# Altium schematic symbol library Schlib1.SchLib: 36 symbols
Pins are listed as number, name and electrical type; pins without a type are passive.

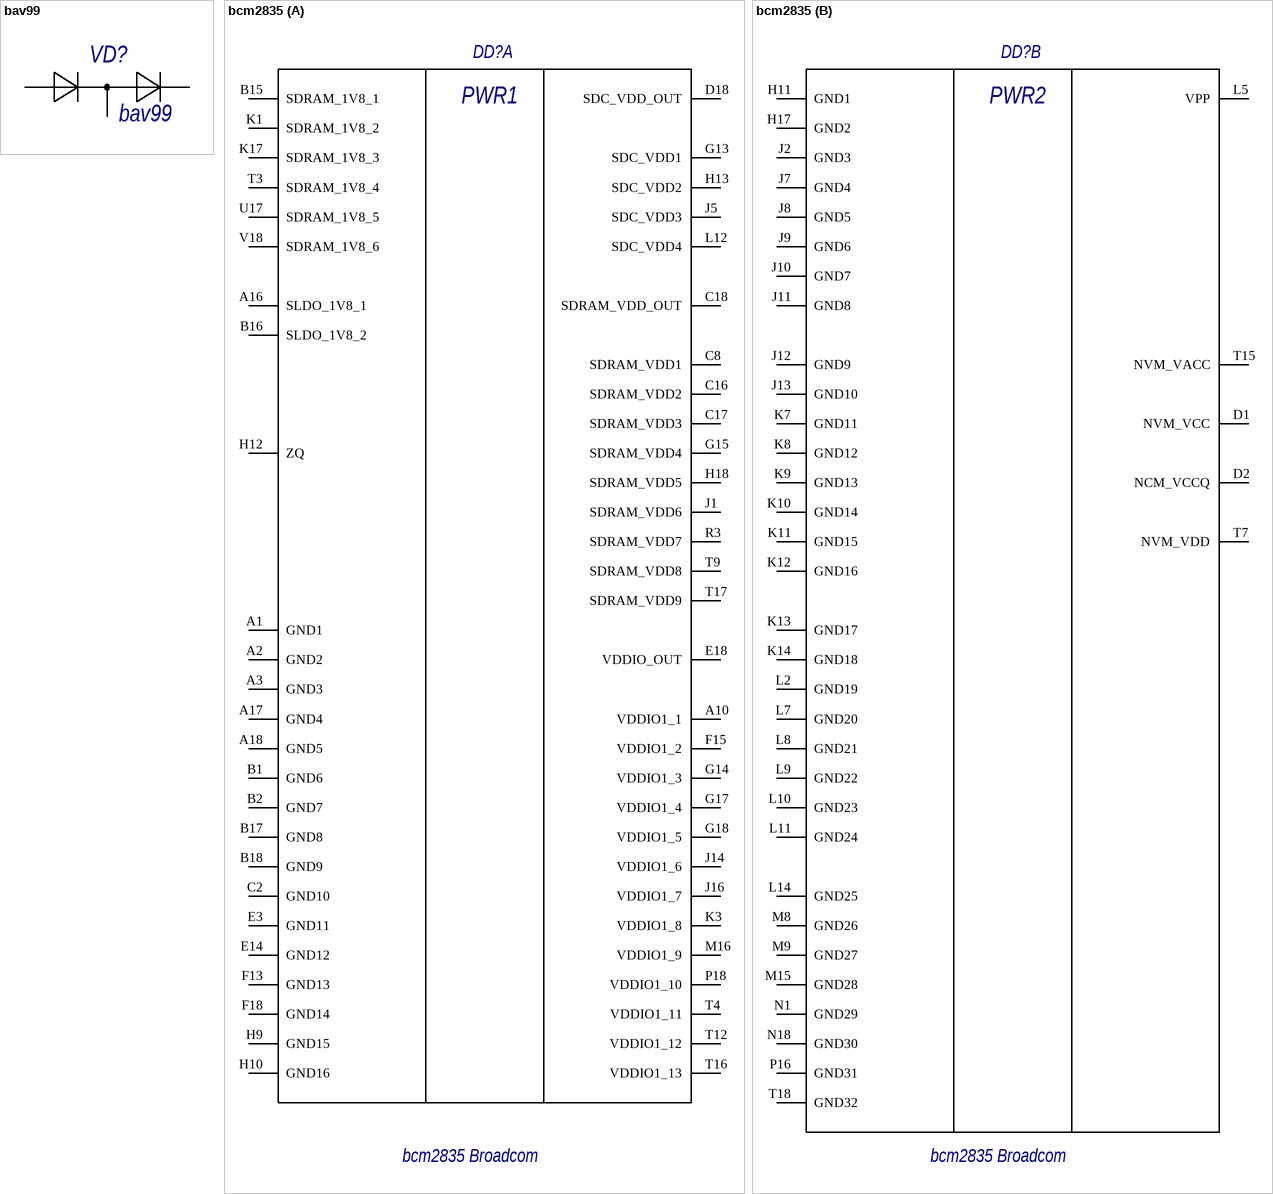
[diagram p0: symbols bav99 to bcm2835]

## bav99
designator VD?, comment Name: bav99  (hidden comment: bav99 *)
bav99 double diode; Manufacturer: *
footprint SOT_99-E3-08_VIS
pins: 1, 3, 3

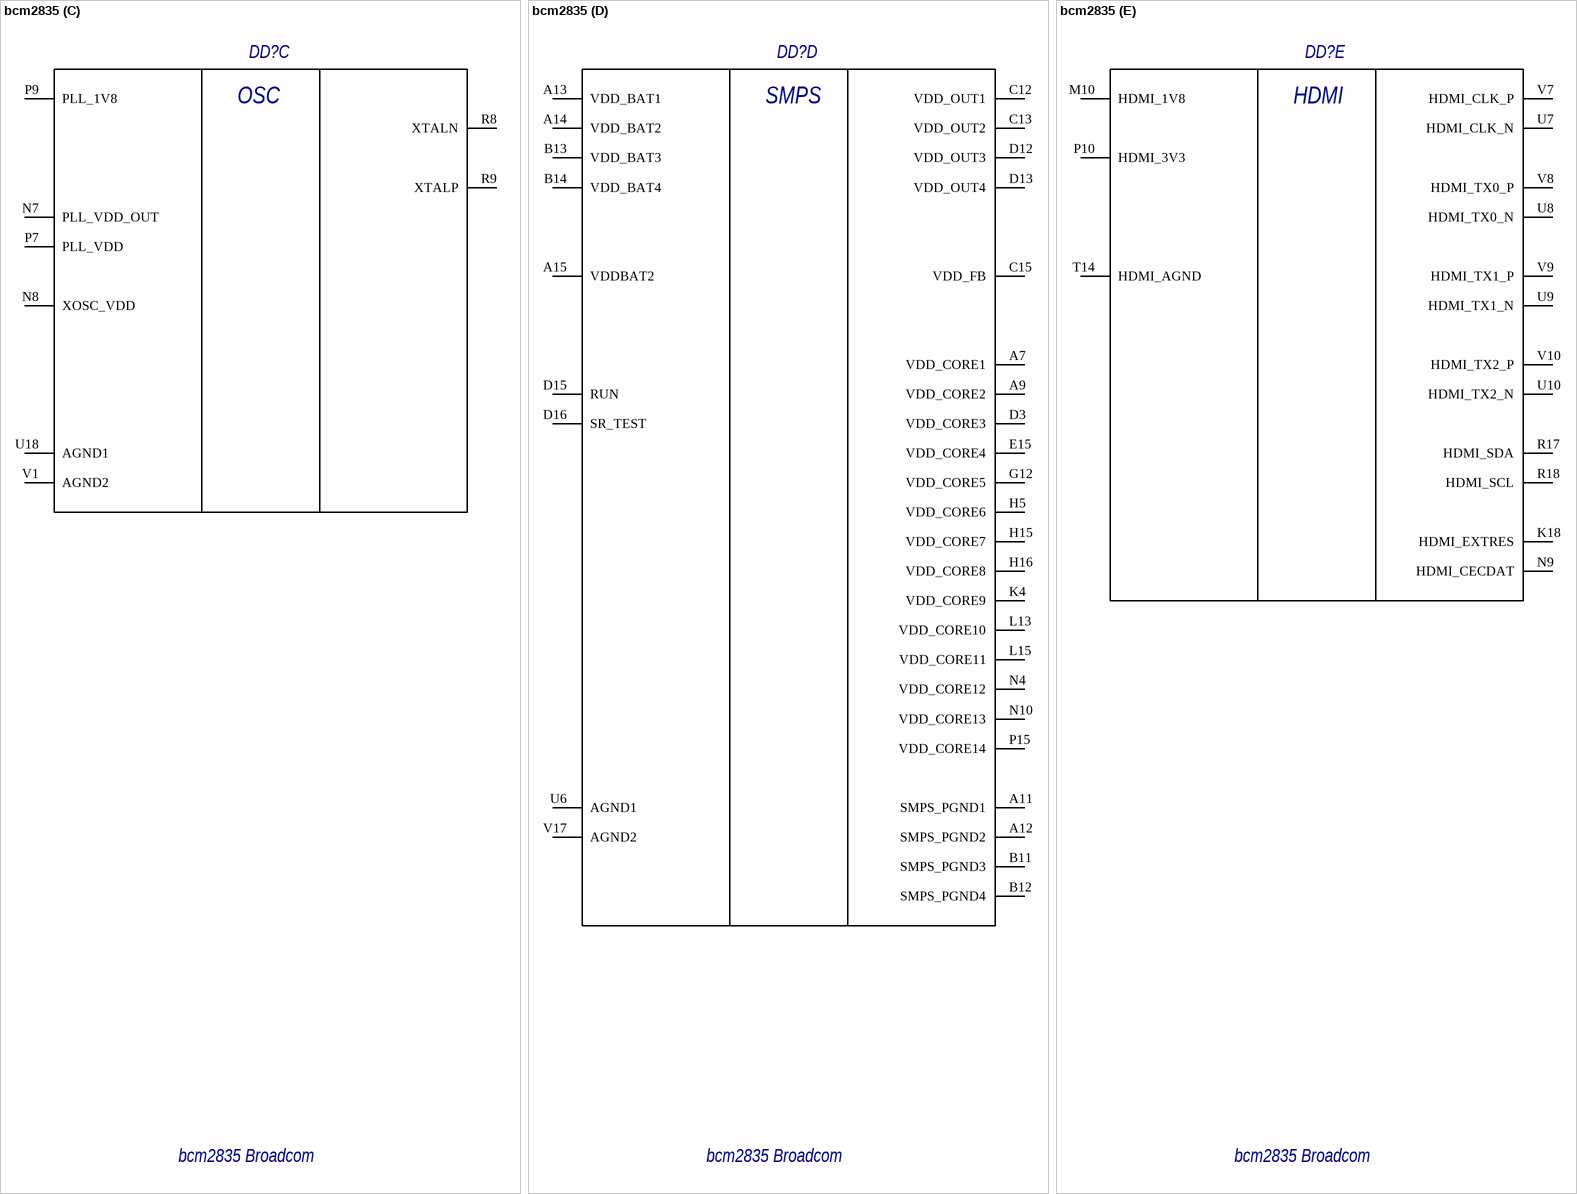
[diagram p1: symbol bcm2835]

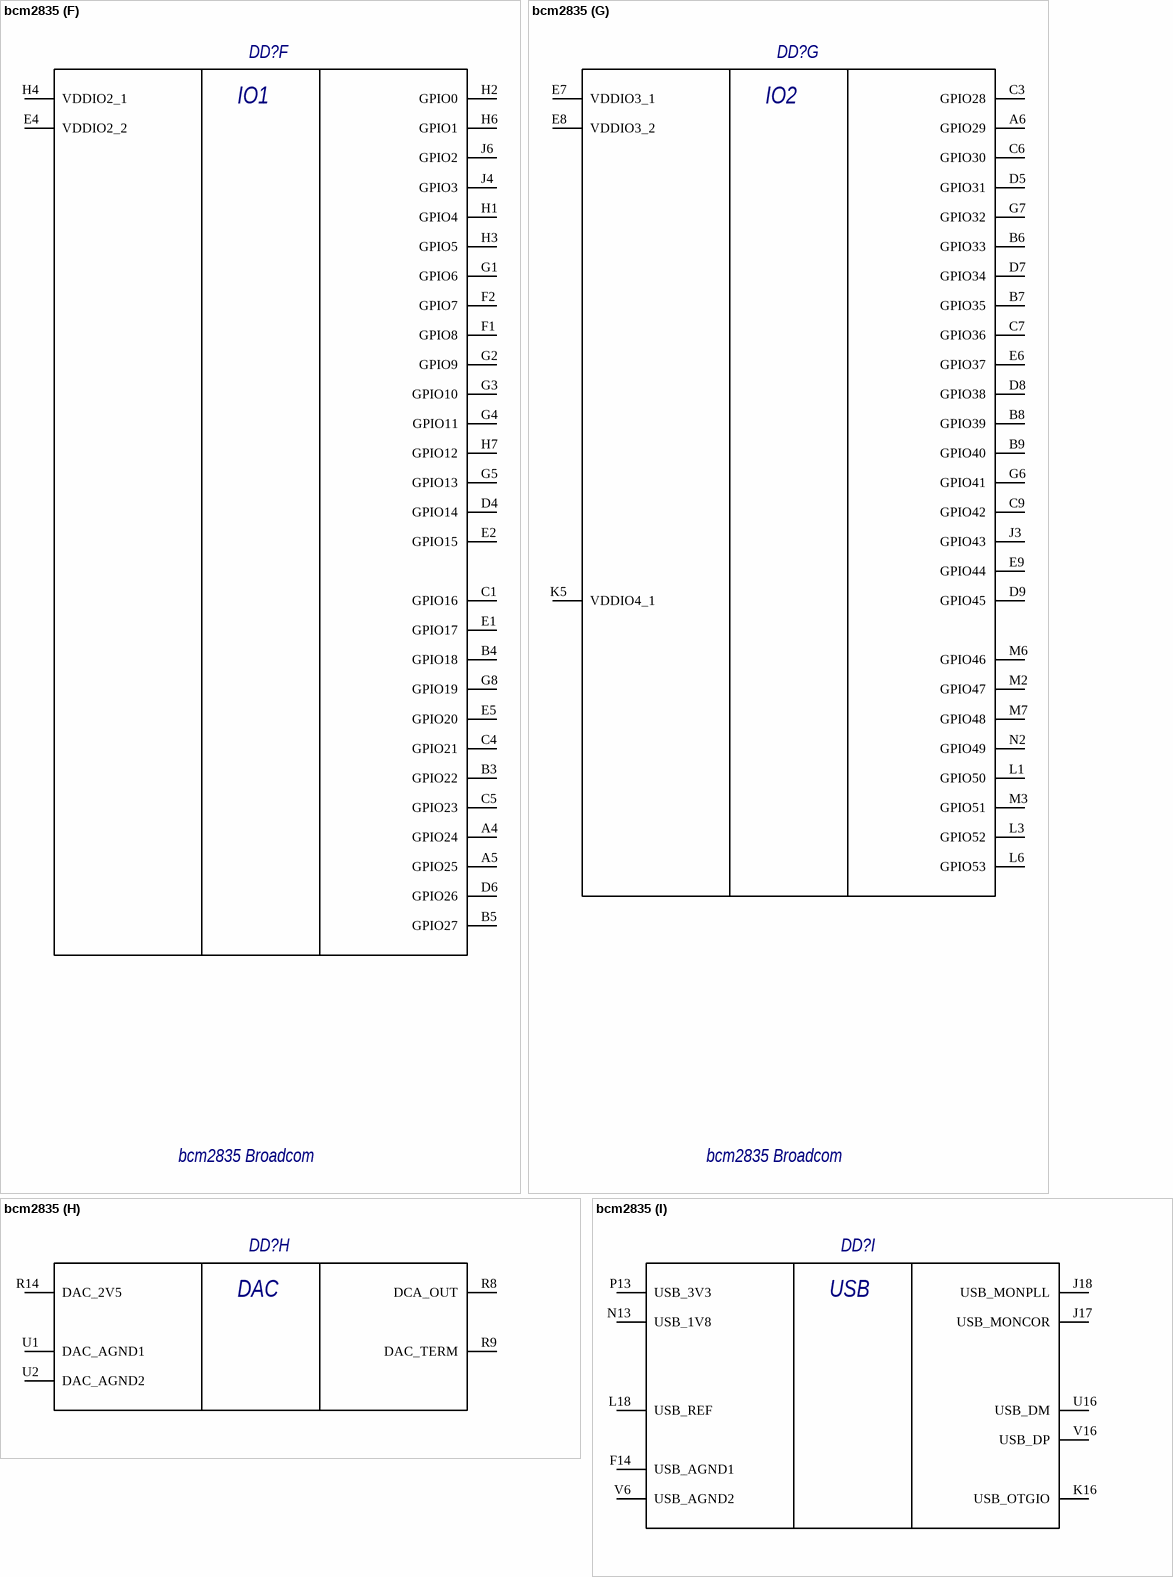
[diagram p2: symbol bcm2835]

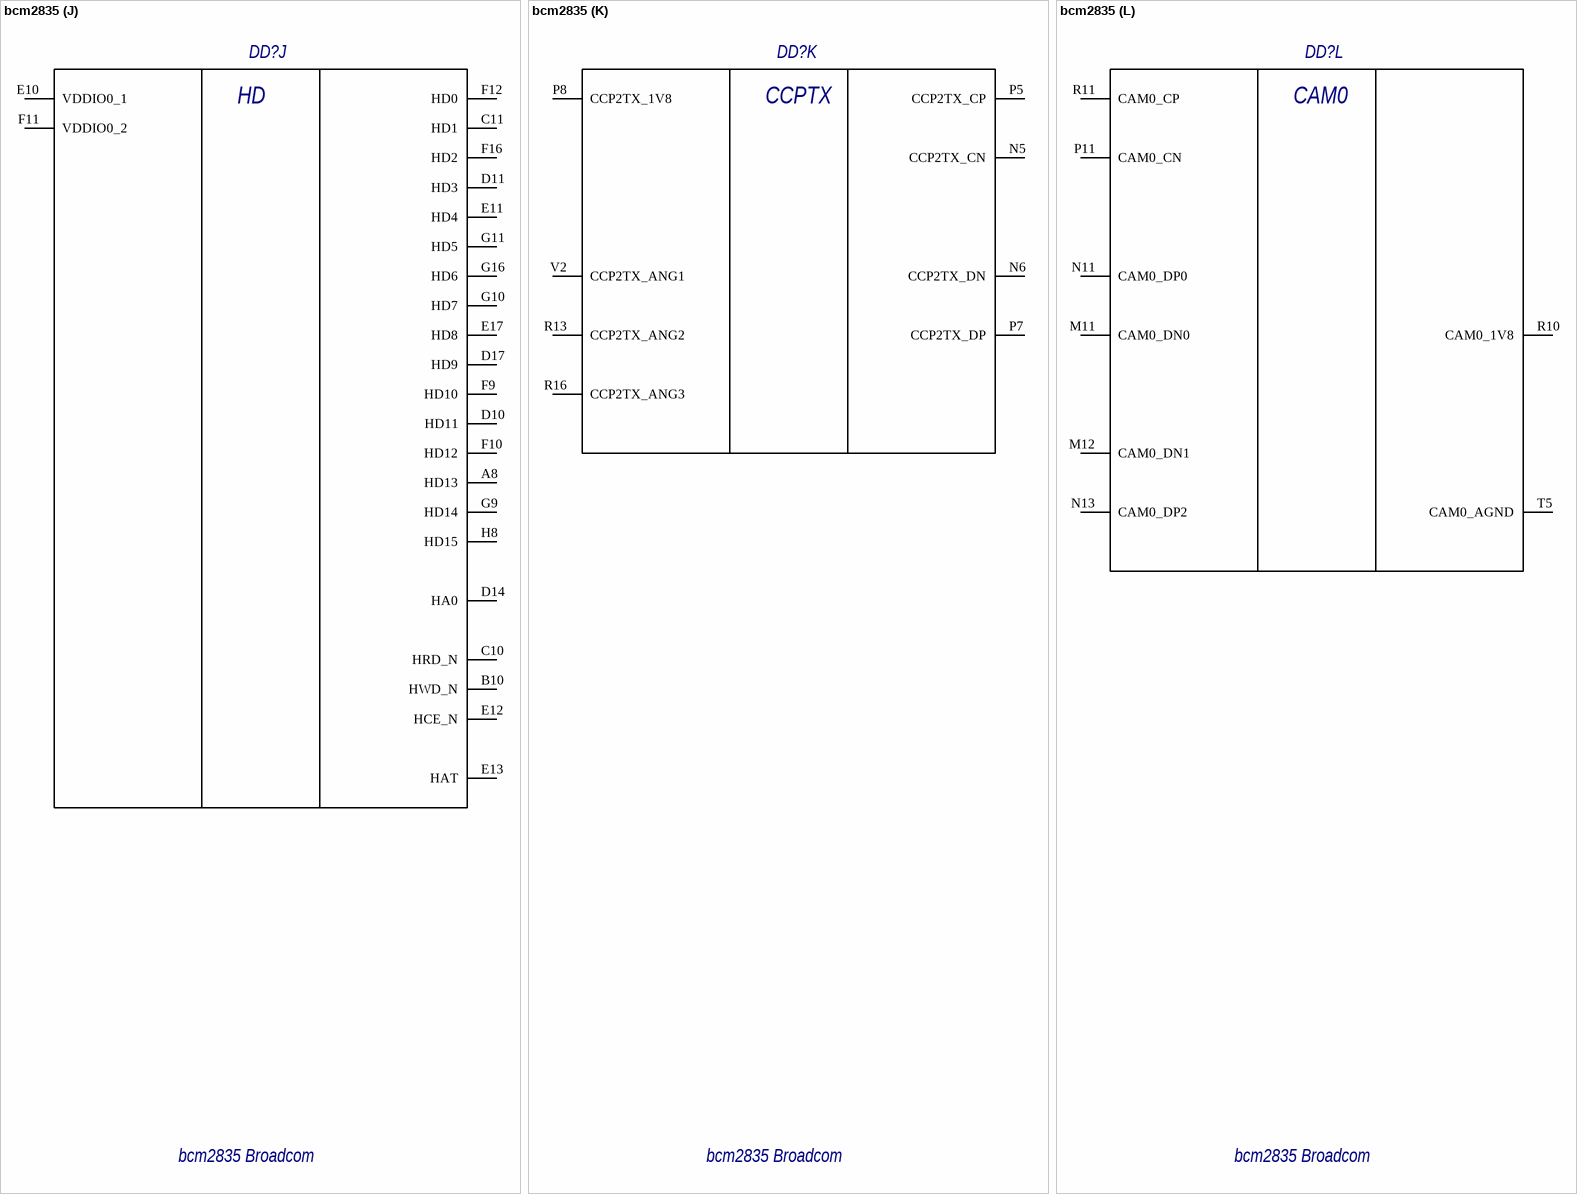
[diagram p3: symbol bcm2835]

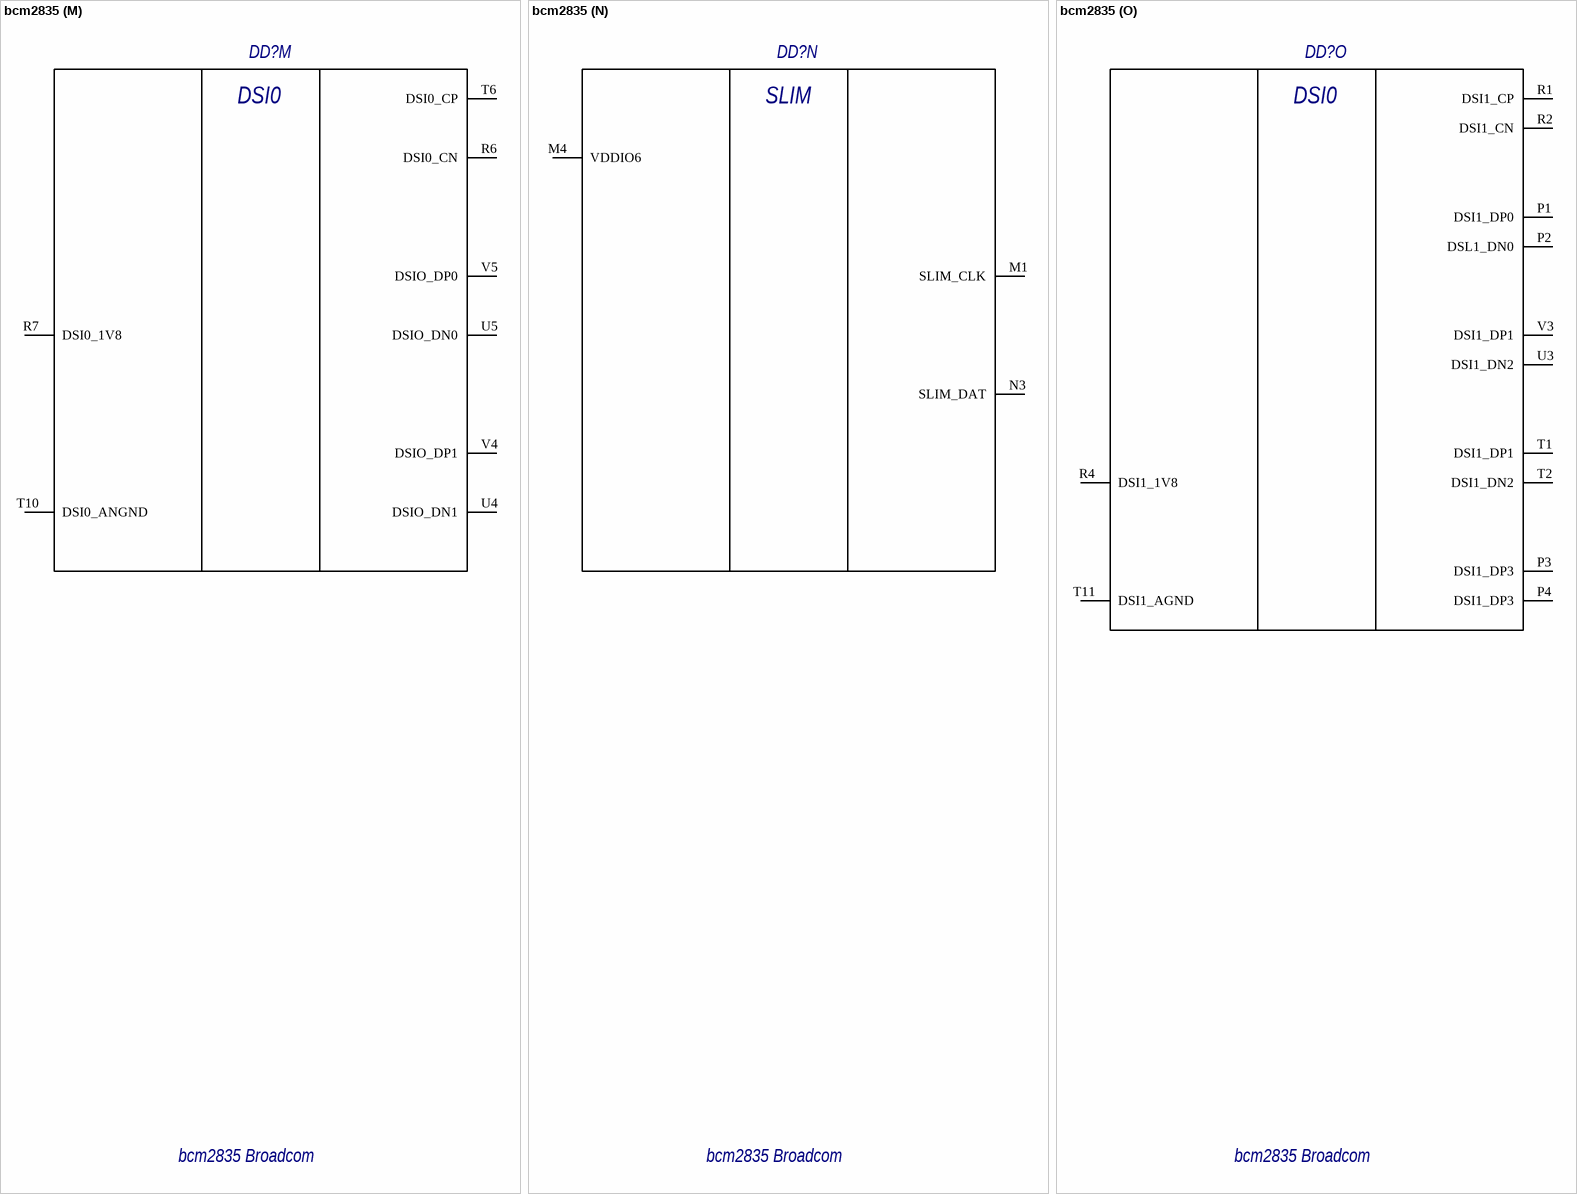
[diagram p4: symbol bcm2835]

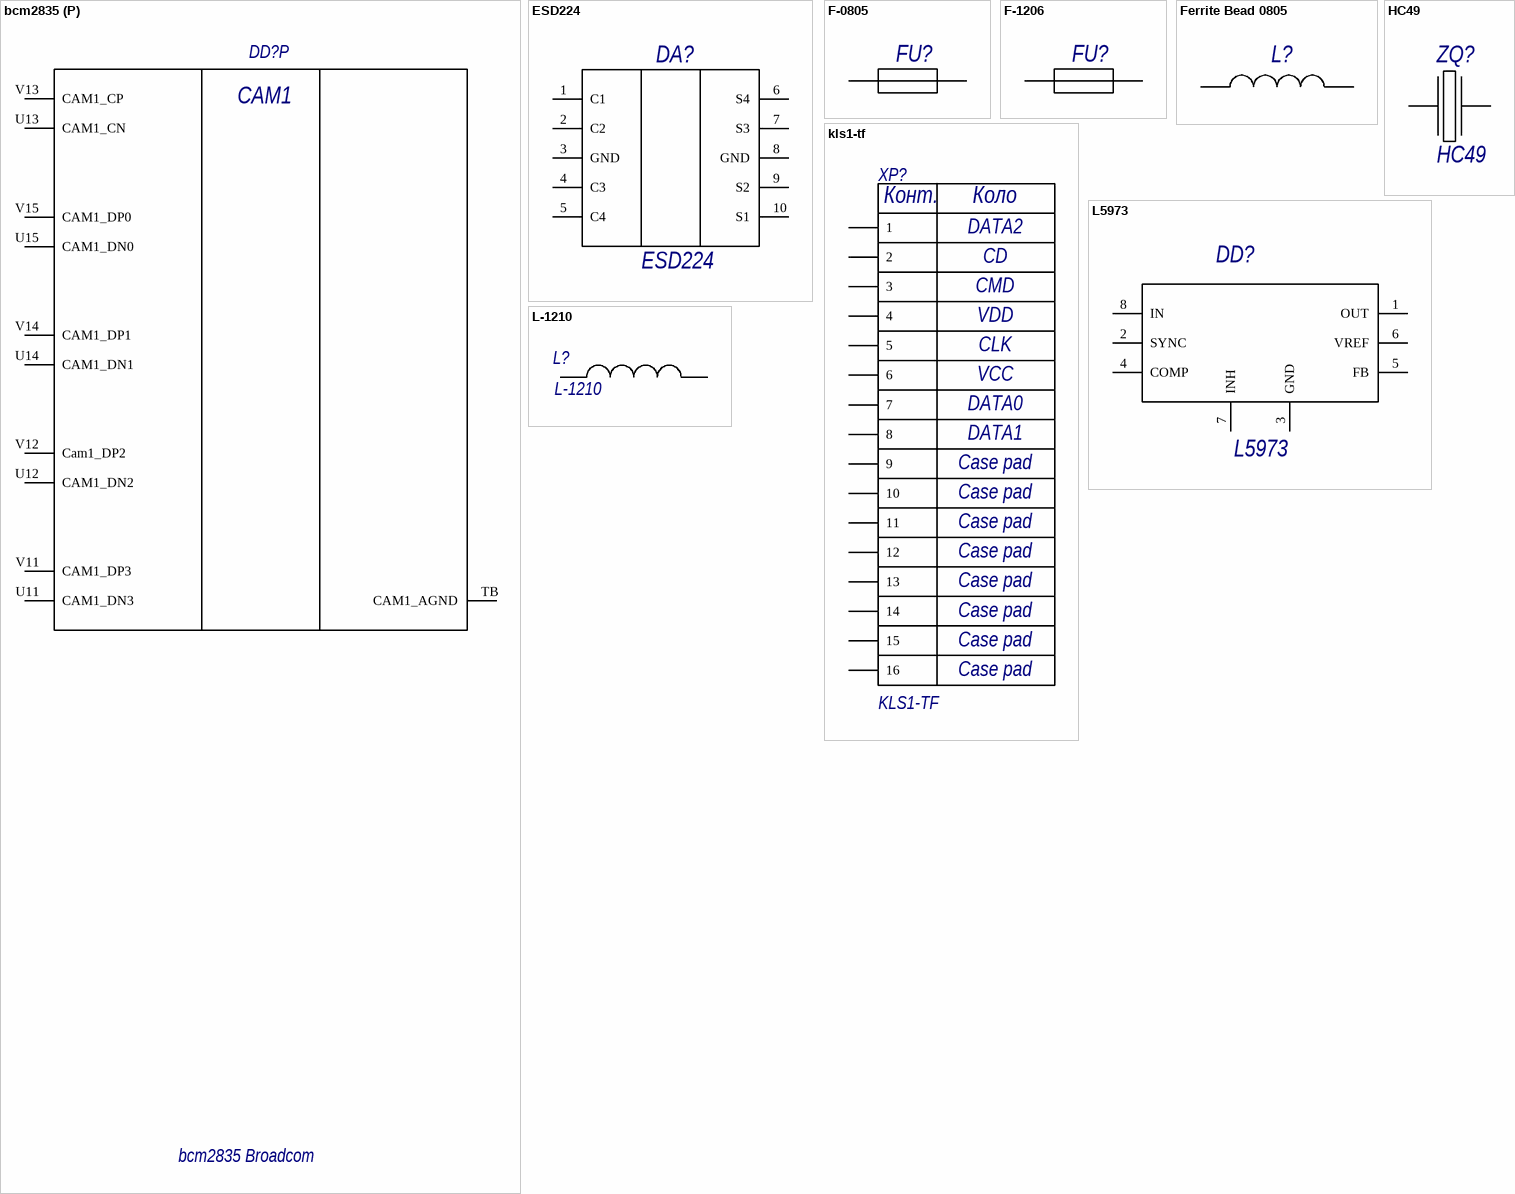
[diagram p5: symbols bcm2835 to L-1210]

## bcm2835
designator DD?, comment bcm2835 Broadcom
BCM2835 ARM-based processor; Manufacturer: Broadcom; Name: bcm2835
footprint BGA81C65P18X18_1200X1200 (BGA, 81-Leads, Body 12,00x12,00mmx1,00mm, Pitch 0,65mm)
part A pins: A1 GND1, A2 GND2, A3 GND3, A10 VDDIO1_1, A16 SLDO_1V8_1, A17 GND4, A18 GND5, B1 GND6, B2 GND7, B15 SDRAM_1V8_1, B16 SLDO_1V8_2, B17 GND8, B18 GND9, C2 GND10, D18 SDC_VDD_OUT, E3 GND11, E14 GND12, E18 VDDIO_OUT, F13 GND13, F15 VDDIO1_2, F18 GND14, G13 SDC_VDD1, G14 VDDIO1_3, G15 SDRAM_VDD4, G17 VDDIO1_4, G18 VDDIO1_5, H9 GND15, H10 GND16, H12 ZQ, H13 SDC_VDD2, H18 SDRAM_VDD5, J1 SDRAM_VDD6, J5 SDC_VDD3, J14 VDDIO1_6, J16 VDDIO1_7, K1 SDRAM_1V8_2, K3 VDDIO1_8, K17 SDRAM_1V8_3, L12 SDC_VDD4, M16 VDDIO1_9, P18 VDDIO1_10, R3 SDRAM_VDD7, T3 SDRAM_1V8_4, T4 VDDIO1_11, T9 SDRAM_VDD8, T12 VDDIO1_12, T16 VDDIO1_13, T17 SDRAM_VDD9, U17 SDRAM_1V8_5, V18 SDRAM_1V8_6, С8 SDRAM_VDD1, С16 SDRAM_VDD2, С17 SDRAM_VDD3, С18 SDRAM_VDD_OUT
part B pins: D1 NVM_VCC, D2 NCM_VCCQ, H11 GND1, H17 GND2, J2 GND3, J7 GND4, J8 GND5, J9 GND6, J10 GND7, J11 GND8, J12 GND9, J13 GND10, K7 GND11, K8 GND12, K9 GND13, K10 GND14, K11 GND15, K12 GND16, K13 GND17, K14 GND18, L2 GND19, L5 VPP, L7 GND20, L8 GND21, L9 GND22, L10 GND23, L11 GND24, L14 GND25, M8 GND26, M9 GND27, M15 GND28, N1 GND29, N18 GND30, P16 GND31, T7 NVM_VDD, T15 NVM_VACC, T18 GND32
part C pins: N7 PLL_VDD_OUT, N8 XOSC_VDD, P7 PLL_VDD, P9 PLL_1V8, R8 XTALN, R9 XTALP, U18 AGND1, V1 AGND2
part D pins: A7 VDD_CORE1, A9 VDD_CORE2, A11 SMPS_PGND1, A12 SMPS_PGND2, A13 VDD_BAT1, A14 VDD_BAT2, A15 VDDBAT2, B11 SMPS_PGND3, B12 SMPS_PGND4, B13 VDD_BAT3, B14 VDD_BAT4, C12 VDD_OUT1, C13 VDD_OUT2, C15 VDD_FB, D3 VDD_CORE3, D12 VDD_OUT3, D13 VDD_OUT4, D15 RUN, D16 SR_TEST, E15 VDD_CORE4, G12 VDD_CORE5, H5 VDD_CORE6, H15 VDD_CORE7, H16 VDD_CORE8, K4 VDD_CORE9, L13 VDD_CORE10, L15 VDD_CORE11, N4 VDD_CORE12, N10 VDD_CORE13, P15 VDD_CORE14, U6 AGND1, V17 AGND2
part E pins: K18 HDMI_EXTRES, M10 HDMI_1V8, N9 HDMI_CECDAT, P10 HDMI_3V3, R17 HDMI_SDA, R18 HDMI_SCL, T14 HDMI_AGND, U7 HDMI_CLK_N, U8 HDMI_TX0_N, U9 HDMI_TX1_N, U10 HDMI_TX2_N, V7 HDMI_CLK_P, V8 HDMI_TX0_P, V9 HDMI_TX1_P, V10 HDMI_TX2_P
part F pins: A4 GPIO24, A5 GPIO25, B3 GPIO22, B4 GPIO18, B5 GPIO27, C1 GPIO16, C4 GPIO21, C5 GPIO23, D4 GPIO14, D6 GPIO26, E1 GPIO17, E2 GPIO15, E4 VDDIO2_2, E5 GPIO20, F1 GPIO8, F2 GPIO7, G1 GPIO6, G2 GPIO9, G3 GPIO10, G4 GPIO11, G5 GPIO13, G8 GPIO19, H1 GPIO4, H2 GPIO0, H3 GPIO5, H4 VDDIO2_1, H6 GPIO1, H7 GPIO12, J4 GPIO3, J6 GPIO2
part G pins: A6 GPIO29, B6 GPIO33, B7 GPIO35, B8 GPIO39, B9 GPIO40, C3 GPIO28, C6 GPIO30, C7 GPIO36, C9 GPIO42, D5 GPIO31, D7 GPIO34, D8 GPIO38, D9 GPIO45, E6 GPIO37, E7 VDDIO3_1, E8 VDDIO3_2, E9 GPIO44, G6 GPIO41, G7 GPIO32, J3 GPIO43, K5 VDDIO4_1, L1 GPIO50, L3 GPIO52, L6 GPIO53, M2 GPIO47, M3 GPIO51, M6 GPIO46, M7 GPIO48, N2 GPIO49
part H pins: R8 DCA_OUT, R9 DAC_TERM, R14 DAC_2V5, U1 DAC_AGND1, U2 DAC_AGND2
part I pins: F14 USB_AGND1, J17 USB_MONCOR, J18 USB_MONPLL, K16 USB_OTGIO, L18 USB_REF, N13 USB_1V8, P13 USB_3V3, U16 USB_DM, V6 USB_AGND2, V16 USB_DP
part J pins: A8 HD13, B10 HWD_N, C10 HRD_N, C11 HD1, D10 HD11, D11 HD3, D14 HA0, D17 HD9, E10 VDDIO0_1, E11 HD4, E12 HCE_N, E13 HAT, E17 HD8, F9 HD10, F10 HD12, F11 VDDIO0_2, F12 HD0, F16 HD2, G9 HD14, G10 HD7, G11 HD5, G16 HD6, H8 HD15
part K pins: N5 CCP2TX_CN, N6 CCP2TX_DN, P5 CCP2TX_CP, P7 CCP2TX_DP, P8 CCP2TX_1V8, R13 CCP2TX_ANG2, R16 CCP2TX_ANG3, V2 CCP2TX_ANG1
part L pins: M11 CAM0_DN0, M12 CAM0_DN1, N11 CAM0_DP0, N13 CAM0_DP2, P11 CAM0_CN, R10 CAM0_1V8, R11 CAM0_CP, T5 CAM0_AGND
part M pins: R6 DSI0_CN, R7 DSI0_1V8, T6 DSI0_CP, T10 DSI0_ANGND, U4 DSIO_DN1, U5 DSIO_DN0, V4 DSIO_DP1, V5 DSIO_DP0
part N pins: M1 SLIM_CLK, M4 VDDIO6, N3 SLIM_DAT
part O pins: P1 DSI1_DP0, P2 DSL1_DN0, P3 DSI1_DP3, P4 DSI1_DP3, R1 DSI1_CP, R2 DSI1_CN, R4 DSI1_1V8, T1 DSI1_DP1, T2 DSI1_DN2, T11 DSI1_AGND, U3 DSI1_DN2, V3 DSI1_DP1
part P pins: TB CAM1_AGND, U11 CAM1_DN3, U12 CAM1_DN2, U13 CAM1_CN, U14 CAM1_DN1, U15 CAM1_DN0, V11 CAM1_DP3, V12 Cam1_DP2, V13 CAM1_CP, V14 CAM1_DP1, V15 CAM1_DP0
part A text: PWR1
part B text: PWR2
part C text: OSC
part D text: SMPS
part E text: HDMI
part F text: IO1
part G text: IO2
part H text: DAC
part I text: USB
part J text: HD
part K text: CCPTX
part L text: CAM0
part M text: DSI0
part N text: SLIM
part O text: DSI0
part P text: CAM1

## ESD224
designator DA?, comment Name: ESD224  (hidden comment: ESD224 *)
bav99 double diode; Manufacturer: *
footprint DQA0010A
pins: 1 C1, 2 C2, 3 GND, 4 C3, 5 C4, 6 S4, 7 S3, 8 GND, 9 S2, 10 S1

## F-0805
designator FU?, comment F-0805 * * * *  (value not drawn)
Generic Fuse 0805; Manufacturer: *; Tolerance: *; Package: F-0805; Power: *; Value: *
footprint FUSE_0805
pins: 1, 2

## F-1206
designator FU?, comment F-1206 * * * *  (value not drawn)
Generic Fuse 1206; Manufacturer: *; Tolerance: *; Package: F-1206; Power: *; Value: *
footprint FUSE_1206
pins: 1, 2

## Ferrite Bead 0805
designator L?, comment R-0402 * * * *  (value not drawn)
Generic; Manufacturer: *; Tolerance: *; Package: R-0402; Power: *; Value: *
footprint FB-0805
pins: 1, 2

## HC49
designator ZQ?, comment HC49 *  (value not drawn)
HC49; Manufacturer: *; Value: *; Name: HC49
footprint HC49
pins: 1, 2

## kls1-tf
designator XP?, comment KLS1-TF
Micro-SD card connector SMT mounting; Name: kls1-tf
footprint 504077-1891_MOL
pins: 1, 2, 3, 4, 5, 6, 7, 8, 9, 10, 11, 12, 13, 14, 15, 16
text: Конт.; Коло; DATA2; CD; CMD; VDD; CLK; VCC; DATA0; DATA1; Case pad

## L5973
designator DD?, comment L5973 *  (value not drawn)
L5973; Manufacturer: *; Name: L5973
footprint HSOP8_STM
pins: 1 OUT, 2 SYNC, 3 GND, 4 COMP, 5 FB, 6 VREF, 7 INH, 8 IN

## L-1210
designator L?
Inductor; Name: L-1210
footprint IND_NC_SUM
pins: 1, 2

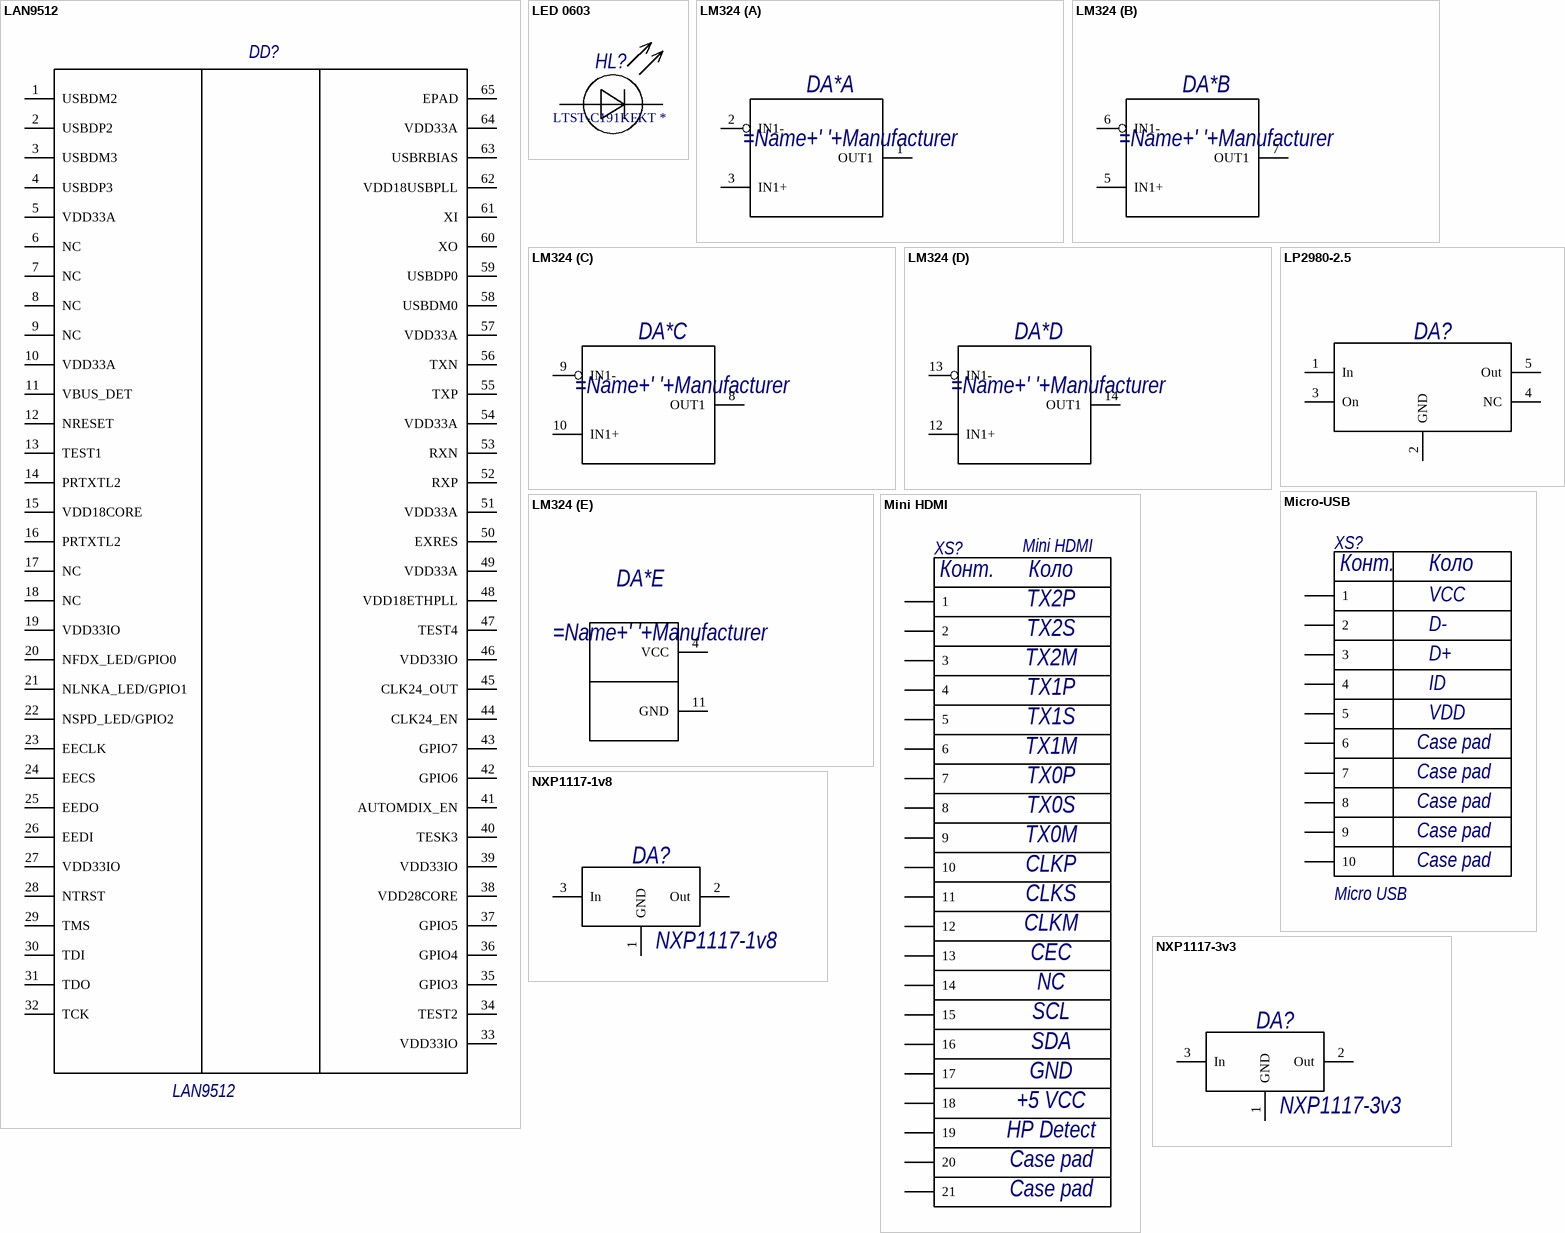
[diagram p6: symbols LAN9512 to NXP1117-3v3]

## LAN9512
designator DD?
Ethernet + USB Controller; Name: LAN9512
footprint QFN64_9x9MC_MCH
pins: 1 USBDM2, 2 USBDP2, 3 USBDM3, 4 USBDP3, 5 VDD33A, 6 NC, 7 NC, 8 NC, 9 NC, 10 VDD33A, 11 VBUS_DET, 12 NRESET, 13 TEST1, 14 PRTXTL2, 15 VDD18CORE, 16 PRTXTL2, 17 NC, 18 NC, 19 VDD33IO, 20 NFDX_LED/GPIO0, 21 NLNKA_LED/GPIO1, 22 NSPD_LED/GPIO2, 23 EECLK, 24 EECS, 25 EEDO, 26 EEDI, 27 VDD33IO, 28 NTRST, 29 TMS, 30 TDI, 31 TDO, 32 TCK, 33 VDD33IO, 34 TEST2, 35 GPIO3, 36 GPIO4, 37 GPIO5, 38 VDD28CORE, 39 VDD33IO, 40 TESK3, 41 AUTOMDIX_EN, 42 GPIO6, 43 GPIO7, 44 CLK24_EN, 45 CLK24_OUT, 46 VDD33IO, 47 TEST4, 48 VDD18ETHPLL, 49 VDD33A, 50 EXRES, 51 VDD33A, 52 RXP, 53 RXN, 54 VDD33A, 55 TXP, 56 TXN, 57 VDD33A, 58 USBDM0, 59 USBDP0, 60 XO, 61 XI, 62 VDD18USBPLL, 63 USBRBIAS, 64 VDD33A, 65 EPAD

## LED 0603
designator HL?, comment LTST-C191KFKT *
Generic LED 0603; Manufacturer: *; Name: LTST-C191KFKT
footprint LED_DIALIGHT_598_DIA
pins: 1, 2

## LM324
designator DA*
Operational amplifier LM324
footprint SOIC-14_NB_ONS
part A pins: 1 OUT1, 2 IN1-, 3 IN1+
part B pins: 5 IN1+, 6 IN1-, 7 OUT1
part C pins: 8 OUT1, 9 IN1-, 10 IN1+
part D pins: 12 IN1+, 13 IN1-, 14 OUT1
part E pins: 4 VCC, 11 GND

## LP2980-2.5
designator DA?
LDO at output 2.5V
footprint MF05A_TEX-L
pins: 1 In, 2 GND, 3 On, 4 NC, 5 Out

## Micro-USB
designator XS?, comment Micro USB
Micro-USB connector for SMT mounting; Name: kls1-tf
footprint micro-usb
pins: 1, 2, 3, 4, 5, 6, 7, 8, 9, 10
text: Конт.; Коло; VCC; D-; D+; ID; VDD; Case pad

## Mini HDMI
designator XS?
Name: Mini HDMI
footprint mini HDMI
pins: 1, 2, 3, 4, 5, 6, 7, 8, 9, 10, 11, 12, 13, 14, 15, 16, 17, 18, 19, 20, 21
text: Конт.; Коло; TX2P; TX2S; TX2M; TX1P; TX1S; TX1M; TX0P; TX0S; TX0M; CLKP; CLKS; CLKM; CEC; NC; SCL; SDA; GND; +5 VCC; HP Detect; Case pad

## NXP1117-1v8
designator DA?
LDO aat output 1.8V
footprint D2PAK3_ONS
pins: 1 GND, 2 Out, 3 In

## NXP1117-3v3
designator DA?
LDO aat output 3.3V
footprint D2PAK3_ONS
pins: 1 GND, 2 Out, 3 In

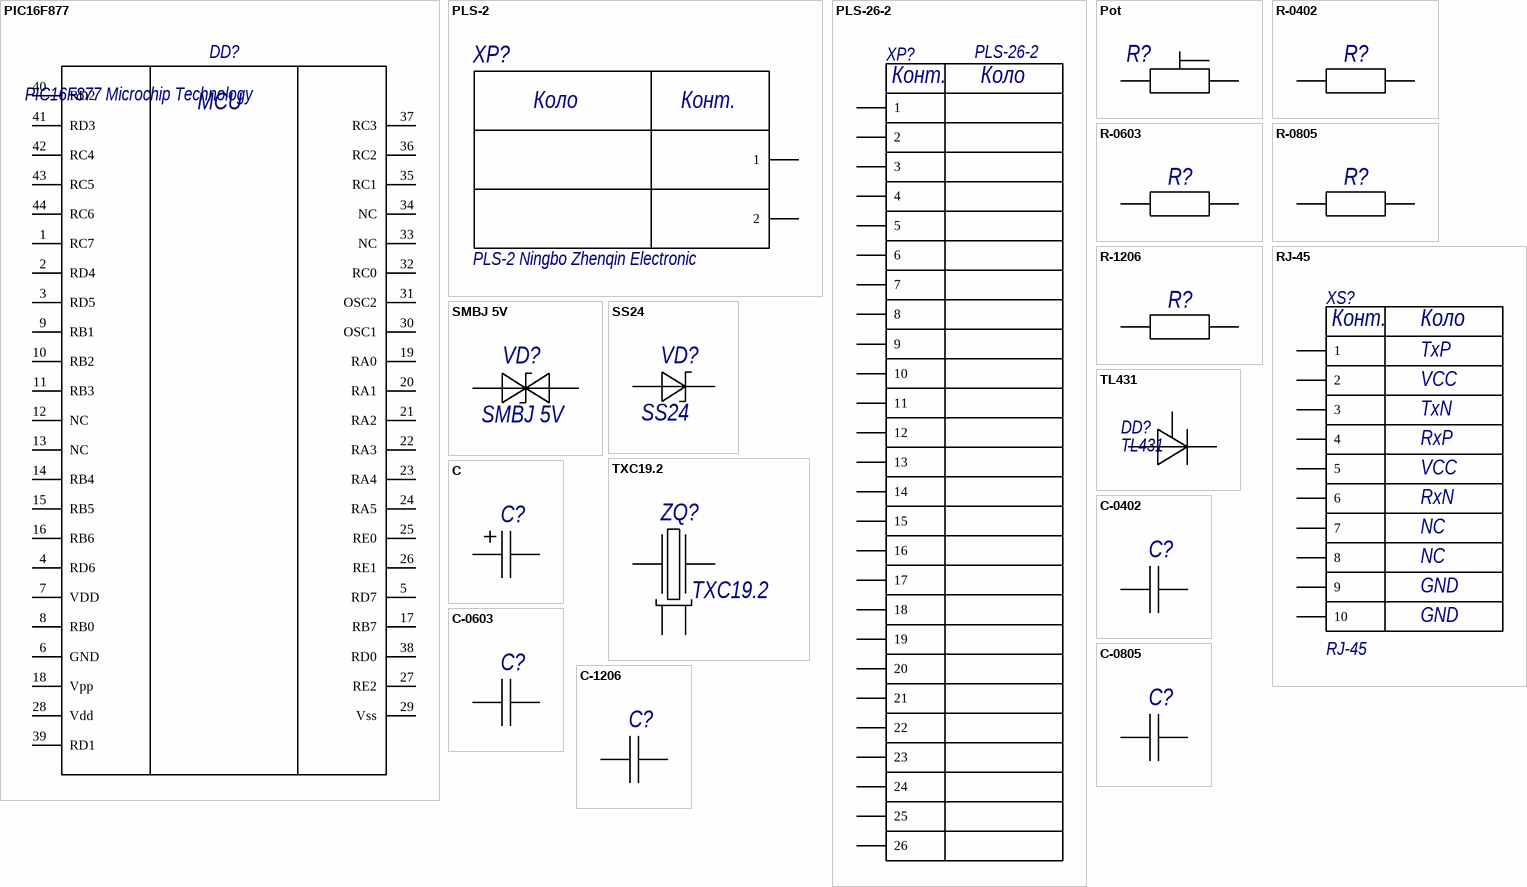
[diagram p7: symbols PIC16F877 to С-1206]

## PIC16F877
designator DD?, comment PIC16F877 Microchip Technology
PIC16F877; Manufacturer: Microchip Technology; Name: PIC16F877
footprint TQFP44_MC_MCH
pins: 1 RC7, 2 RD4, 3 RD5, 4 RD6, 5 RD7, 6 GND, 7 VDD, 8 RB0, 9 RB1, 10 RB2, 11 RB3, 12 NC, 13 NC, 14 RB4, 15 RB5, 16 RB6, 17 RB7, 18 Vpp, 19 RA0, 20 RA1, 21 RA2, 22 RA3, 23 RA4, 24 RA5, 25 RE0, 26 RE1, 27 RE2, 28 Vdd, 29 Vss, 30 OSC1, 31 OSC2, 32 RC0, 33 NC, 34 NC, 35 RC1, 36 RC2, 37 RC3, 38 RD0, 39 RD1, 40 RD2, 41 RD3, 42 RC4, 43 RC5, 44 RC6
text: MCU

## PLS-2
designator XP?, comment PLS-2 Ningbo Zhenqin Electronic
PLS-2; Name: PLS-2; Manufacturer: Ningbo Zhenqin Electronic
footprint PLS-2
pins: 1, 2
text: Коло; Конт.

## PLS-26-2
designator XP?
PLS connector 26 pin 2.54mm pitch 2 rows; Name: PLS-26-2
footprint 26 pin 2.54mm pitch 2 row
pins: 1, 2, 3, 4, 5, 6, 7, 8, 9, 10, 11, 12, 13, 14, 15, 16, 17, 18, 19, 20, 21, 22, 23, 24, 25, 26
text: Конт.; Коло

## Pot
designator R?, comment Pot * * * *  (value not drawn)
Pot; Manufacturer: *; Tolerance: *; Package: Pot; Power: *; Value: *
footprint POT_3296W
pins: 1, 2, 3

## R-0402
designator R?, comment R-0402 * * * *  (value not drawn)
Generic; Manufacturer: *; Tolerance: *; Package: R-0402; Power: *; Value: *
footprint R-0402
pins: 1, 2

## R-0603
designator R?, comment R-0603 * * * *  (value not drawn)
Generic; Manufacturer: *; Tolerance: *; Package: R-0603; Power: *; Value: *
footprint R-0603
pins: 1, 2

## R-0805
designator R?, comment R-0805 * * * *  (value not drawn)
Generic; Manufacturer: *; Tolerance: *; Package: R-0805; Power: *; Value: *
footprint R-0805
pins: 1, 2

## R-1206
designator R?, comment R-1206 * * * *  (value not drawn)
Generic; Manufacturer: *; Tolerance: *; Package: R-1206; Power: *; Value: *
footprint R-1206-YAG
pins: 1, 2

## RJ-45
designator XS?
RJ-45 connector SMT mounting; Name: kls1-tf
footprint CONN8_2041126-1_TEC
pins: 1, 2, 3, 4, 5, 6, 7, 8, 9, 10
text: Конт.; Коло; TxP; VCC; TxN; RxP; RxN; NC; GND

## SMBJ 5V
designator VD?, comment Name: SMBJ 5V  (hidden comment: SMBJ 5V *)
TVS 5V Diode; Manufacturer: *
footprint SMB_STM
pins: 1, 2

## SS24
designator VD?, comment Name: SS24  (hidden comment: SS24 *)
SS24 Shotky; Manufacturer: *
footprint SS14
pins: 1, 2

## TL431
designator DD?
Name: TL431
footprint SOT23_TO-236AB_NEX
pins: 1, 2

## TXC19.2
designator ZQ?, comment Name: TXC19.2  (hidden comment: TXC19.2 *)
TXC19.2 crystal 19.2 MHz; Manufacturer: *; Value: *
footprint CRYSTAL_TXC_7B
pins: 1, 2, 3, 4

## С
designator C?, comment C * * * * *  (value not drawn)
Generic electrolite SMT capacitor; Manufacturer: *; Tolerance: *; Package: C; Temp_Coef: *; Voltage: *; Value: *
footprint PCAP_SVP_C6_PAN
pins: 1, 2

## С-0402
designator C?, comment C-0402 * * * * *  (value not drawn)
Generic; Manufacturer: *; Tolerance: *; Package: C-0402; Temp_Coef: *; Voltage: *; Value: *
footprint C-0402
pins: 1, 2

## С-0603
designator C?, comment C-0603 * * * * *  (value not drawn)
Generic; Manufacturer: *; Tolerance: *; Package: C-0603; Temp_Coef: *; Voltage: *; Value: *
footprint С-0603
pins: 1, 2

## С-0805
designator C?, comment C-0805 * * * * *  (value not drawn)
Generic; Manufacturer: *; Tolerance: *; Package: C-0805; Temp_Coef: *; Voltage: *; Value: *
footprint C-0805-KEM
pins: 1, 2

## С-1206
designator C?, comment C-1206 * * * * *  (value not drawn)
Generic; Manufacturer: *; Tolerance: *; Package: C-1206; Temp_Coef: *; Voltage: *; Value: *
footprint C-1206
pins: 1, 2